# Altium footprint library T821112A1S100CEU.PcbLib: 1 footprints
Each footprint in its own frame and in the unit in brackets; x right, y up, seen from the top. Pads: shape width x height; smd on the part's side, far side on the other; paste and mask are expansions set on the pad; w line width, h text height; cw(c..) or ccw(c..) is an arc to the next point about the centre after c.
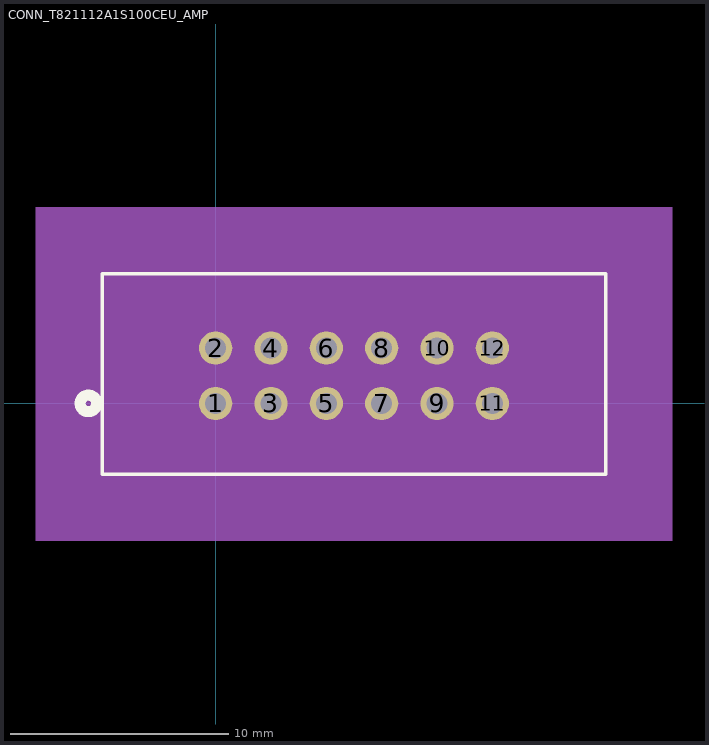
[diagram p0: the footprint, top view; thin cyan lines are the x and y axes]

## CONN_T821112A1S100CEU_AMP [mil]
pads (12):
  round 60 hole 38 mask+0: 1(0,0) 2(0,100) 3(100,0) 4(100,100) 5(200,0) 6(200,100) 7(300,0) 8(300,100) 9(400,0) 10(400,100) 11(500,0) 12(500,100)
Top Overlay:
  circle w20: c-230,0 r15
  lines w6: -205,-127.87 705,-127.87 705,234.13 -205,234.13 -205,-127.87
Bottom Overlay:
  circle w20: c-230,0 r15
Mechanical 5:
  region: -325,354.13 825,354.13 825,-247.87 -325,-247.87
Mechanical 13:
  circle w20: c0,-75 r15
  lines w1: -200,-122.87 700,-122.87 700,229.13 -200,229.13 -200,-122.87
Mechanical 15:
  region: 710,239.13 -210,239.13 -210,-132.87 710,-132.87
  lines w6: -210,-132.87 -210,239.13 710,239.13 710,-132.87 -210,-132.87
3D body: height 10, standoff 0, extent 0,0 10,10